# Altium footprint library SOD.PcbLib: 5 footprints
Each footprint in its own frame and in the unit in brackets; x right, y up, seen from the top. Pads: shape width x height; smd on the part's side, far side on the other; paste and mask are expansions set on the pad; w line width, h text height; cw(c..) or ccw(c..) is an arc to the next point about the centre after c.
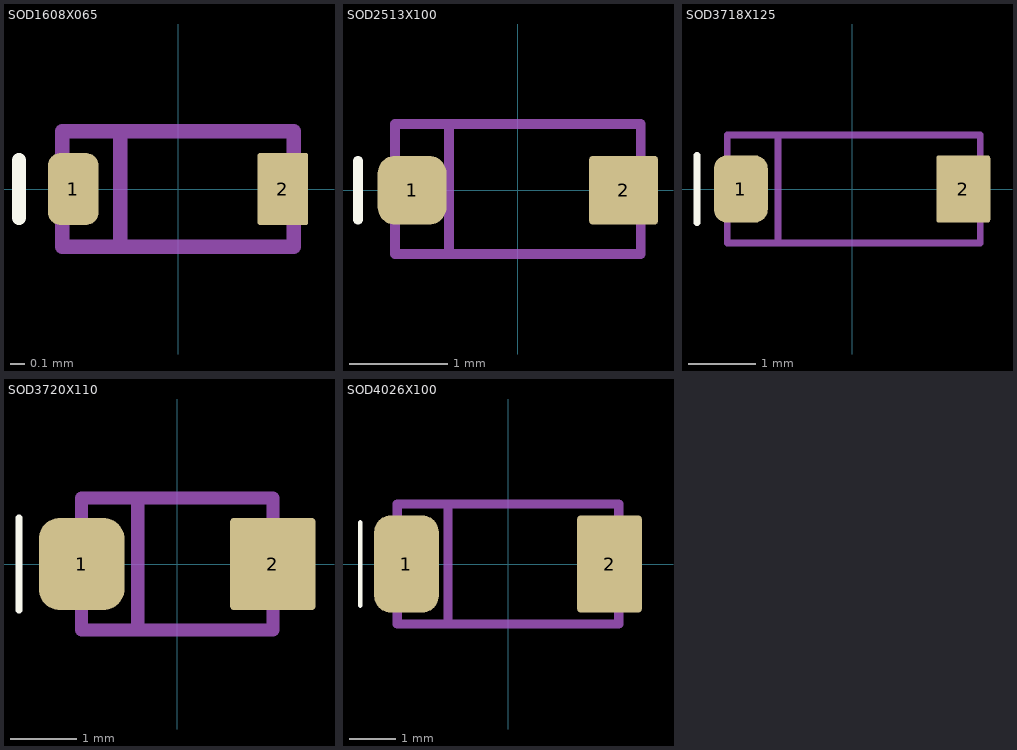
[diagram p0: the footprints below, top view; thin cyan lines are the x and y axes]

## SOD1608X065 [mm] "SOD523"
height 0.65
pads (2):
  rrect50% 0.35x0.5 smd: 1(-0.725,0)
  rrect10% 0.35x0.5 smd: 2(0.725,0)
Top Overlay:
  lines w0.1: -1.1,-0.2 -1.1,0.2
Top Assembly:
  lines w0.1: -0.4,-0.4 -0.4,0.4 ; -0.8,-0.4 0.8,-0.4 0.8,0.4 -0.8,0.4 -0.8,-0.4
3D body "SOD-523.stp": height 0.65, standoff 0, extent -0.8,-0.4 0.8,0.4

## SOD2513X100 [mm] "SOD-323"
height 1
pads (2):
  rrect50% 0.7x0.7 smd: 1(-1.075,0)
  rrect10% 0.7x0.7 smd: 2(1.075,0)
Top Overlay:
  lines w0.1: -1.625,-0.3 -1.625,0.3
Top Assembly:
  lines w0.1: -0.7,-0.65 -0.7,0.675 ; -1.25,-0.65 1.25,-0.65 1.25,0.675 -1.25,0.675 -1.25,-0.65
3D body "SOD2513X100 - SOD-323.stp": height 1, standoff 0, extent -1.25,-0.65 1.25,0.65

## SOD3718X125 [mm] "SOD-123"
height 1.25
pads (2):
  rrect50% 0.8x1 smd: 1(-1.65,0)
  rrect10% 0.8x1 smd: 2(1.65,0)
Top Overlay:
  lines w0.1: -2.3,-0.5 -2.3,0.5
Top Assembly:
  lines w0.1: -1.1,-0.8 -1.1,0.8 ; -1.85,-0.8 -1.85,0.8 1.9,0.8 1.9,-0.8 -1.85,-0.8
3D body "SOD3718X125 - SOD-123.stp": height 1.25, standoff 0, extent -1.85,-0.8 1.85,0.8

## SOD3720X110 [mm] "SOD123FL"
pads (2):
  rrect50% 1.3x1.4 smd: 1(-1.45,0)
  rrect10% 1.3x1.4 smd: 2(1.45,0)
Top Overlay:
  lines w0.1: -2.4,-0.7 -2.4,0.7
Top Assembly:
  lines w0.2: -0.6,-1 -0.6,1 ; -1.45,-1 1.45,-1 1.45,1 -1.45,1 -1.45,-1
3D body "SOD123FL.stp": height 0.99, standoff 0, extent -1.85,-0.925 1.85,0.925

## SOD4026X100 [mm] "SOD128"
pads (2):
  rrect50% 1.4x2.1 smd: 1(-2.2,0)
  rrect10% 1.4x2.1 smd: 2(2.2,0)
Top Overlay:
  lines w0.1: -3.2,-0.9 -3.2,0.9
Top Assembly:
  lines w0.2: -1.3,-1.3 -1.3,1.3 ; -2.4,-1.3 2.4,-1.3 2.4,1.3 -2.4,1.3 -2.4,-1.3
3D body "SOD4026X100 - SOD-128.stp": height 1, standoff 0, extent -2.35,-1.3 2.35,1.3